# Altium schematic symbol library USB4105-GF-A.SchLib: 1 symbol
Pins are listed as number, name and electrical type; pins without a type are passive.

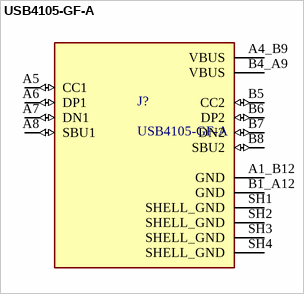
[diagram p0: symbol USB4105-GF-A]

## USB4105-GF-A
designator J?
CONN RCP USB2.0 TYP C 24P SMD RA; MF: {'manufacturer': u'GCT'}; Package: None; Price: None; Value: *; MPN: USB4105-GF-A; Availability: Unavailable
footprint GCT_USB4105-GF-A
pins: A1_B12 GND (power), A4_B9 VBUS (power), A5 CC1 (io), A6 DP1 (io), A7 DN1 (io), A8 SBU1 (io), B1_A12 GND (power), B4_A9 VBUS (power), B5 CC2 (io), B6 DP2 (io), B7 DN2 (io), B8 SBU2 (io), SH1 SHELL_GND (power), SH2 SHELL_GND (power), SH3 SHELL_GND (power), SH4 SHELL_GND (power)